# Altium schematic symbol library XSS_IC.SchLib: 440 symbols (part 2 of 4)
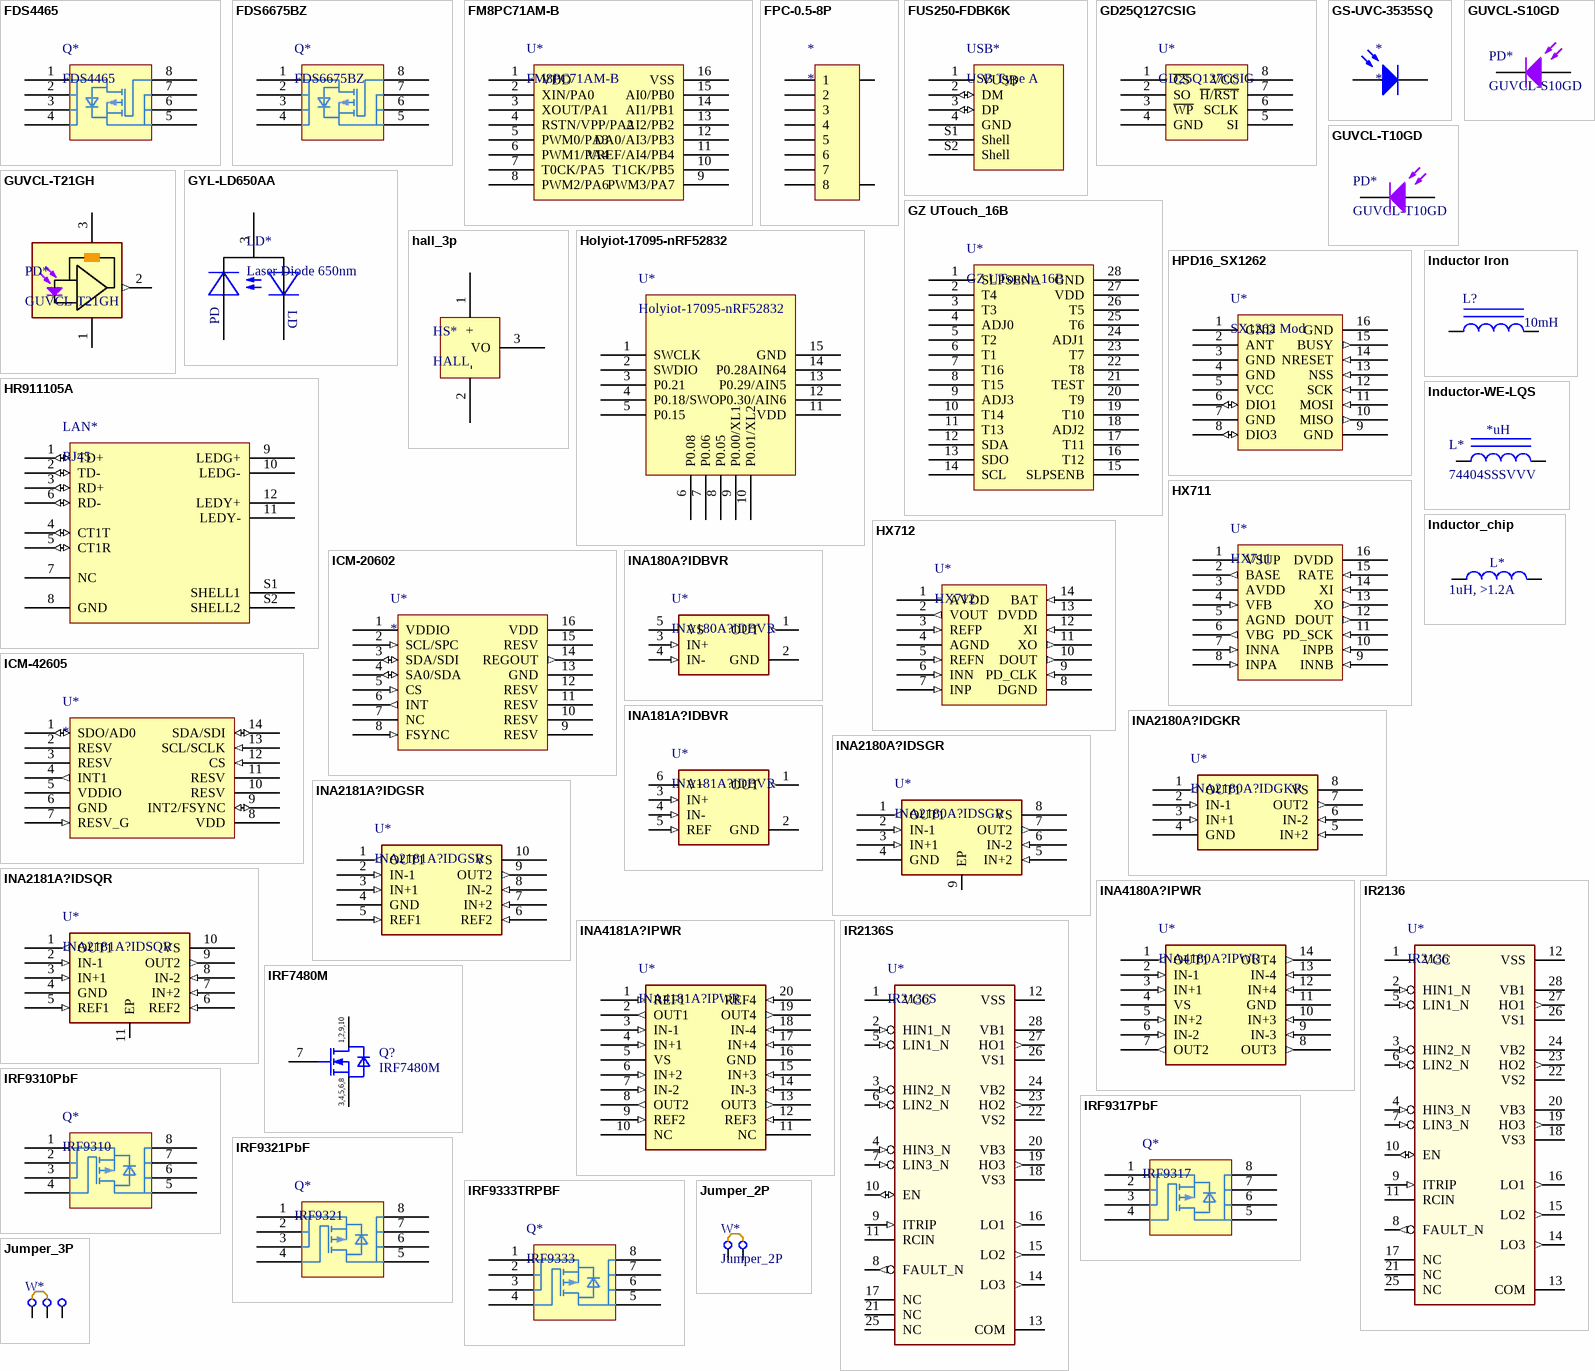
[diagram p14: symbols FDS4465 to Jumper_3P]

## ICM-42605
designator U*
The ICM-42605 is a 6-axis MotionTracking device that combines a 3-axis gyroscope, and a 3-axis accelerometer in a small 2.5x3x0.91 / mm (14-pin LGA) package. It also features a 2K-byte FIFO that can lower the traffic on the serial bus interface, and reduce power / consumption by allowing the system processor to burst read sensor data and then go into a low-power mode.
footprint LGA14-2.5x3x0.91
pins: 1 SDO/AD0 (io), 2 RESV, 3 RESV, 4 INT1 (out), 5 VDDIO (power), 6 GND (power), 7 RESV_G (in), 8 VDD (power), 9 INT2/FSYNC (io), 10 RESV, 11 RESV, 12 CS (in), 13 SCL/SCLK (in), 14 SDA/SDI (io)

## INA180A?IDBVR
designator U*
TI, 26V, 350kHz current sense amplifier, 1 Channel, DBV Package
footprint TI_DBV0005A (TI SOT-23-5,DBV0005A,2.90 mm × 1.60 mm)
pins: 1 OUT (out), 2 GND (power), 3 IN+ (in), 4 IN- (in), 5 VS (power)

## INA181A?IDBVR
designator U*
TI, 26V, bi-directional, 350kHz current sense amplifier, 1 Channel, DBV Package(SOT-23-6)
footprint TI_DBV0006A (TI SOT-23-6,DBV0006A,2.90 mm × 1.60 mm)
pins: 1 OUT (out), 2 GND (power), 3 IN+ (in), 4 IN- (in), 5 REF (in), 6 V+ (power)

## INA2180A?IDGKR
designator U*
TI, 26V, 350kHz current sense amplifier,  2 Channels, DGK Package(VSSOP-8)
footprint TI_DGK0008A (TI, DGK0008A(S-PDSO-G8), VSSOP-8, 3.00 mm × 3.00 mm)
pins: 1 OUT1 (out), 2 IN-1 (in), 3 IN+1 (in), 4 GND (power), 5 IN+2 (in), 6 IN-2 (in), 7 OUT2 (out), 8 VS (power)

## INA2180A?IDSGR
designator U*
TI, 26V, 350kHz current sense amplifier,  2 Channels, DSG Package(WSON-8)
footprint TI_DSG0008A (TI, WSON-8, DSG0008A,2.00 mm × 2.00 mm)
pins: 1 OUT1 (out), 2 IN-1 (in), 3 IN+1 (in), 4 GND (power), 5 IN+2 (in), 6 IN-2 (in), 7 OUT2 (out), 8 VS (power), 9 EP

## INA2181A?IDGSR
designator U*
TI, 26V, bi-directional, 350kHz current sense amplifier, 2 Channel, DGS Package(VSSOP-10)
footprint TI_DGS0010A (TI, VSSOP-10, DGS0010A, 3.00 mm × 3.00 mm)
pins: 1 OUT1 (out), 2 IN-1 (in), 3 IN+1 (in), 4 GND (power), 5 REF1 (in), 6 REF2 (in), 7 IN+2 (in), 8 IN-2 (in), 9 OUT2 (out), 10 VS (power)

## INA2181A?IDSQR
designator U*
TI, 26V, bi-directional, 350kHz current sense amplifier, 2 Channel, DSQ Package(WSON-10)
footprint TI_DSQ0010A (TI, WSON-10, SQ0010A,2.00 mm × 2.00 mm)
pins: 1 OUT1 (out), 2 IN-1 (in), 3 IN+1 (in), 4 GND (power), 5 REF1 (in), 6 REF2 (in), 7 IN+2 (in), 8 IN-2 (in), 9 OUT2 (out), 10 VS (power), 11 EP

## INA4180A?IPWR
designator U*
TI, 26V, 350kHz current sense amplifier,  4 Channels, PW Package(TSSOP-14)
footprint TI_PW0014A (TI, TSSOP-14, PW0014A, 5.00 mm × 4.40 mm)
pins: 1 OUT1 (out), 2 IN-1 (in), 3 IN+1 (in), 4 VS (power), 5 IN+2 (in), 6 IN-2 (in), 7 OUT2 (out), 8 OUT3 (out), 9 IN-3 (in), 10 IN+3 (in), 11 GND (power), 12 IN+4 (in), 13 IN-4 (in), 14 OUT4 (out)

## INA4181A?IPWR
designator U*
TI, 26V, bi-directional, 350kHz current sense amplifier, 4 Channel, PW Package(TSSOP-20)
footprint TI_PW0020A (TI, TSSOP-20, PW0020A, 6.50 mm × 4.40 mm)
pins: 1 REF1 (in), 2 OUT1 (out), 3 IN-1 (in), 4 IN+1 (in), 5 VS (power), 6 IN+2 (in), 7 IN-2 (in), 8 OUT2 (out), 9 REF2 (in), 10 NC, 11 NC, 12 REF3 (in), 13 OUT3 (out), 14 IN-3 (in), 15 IN+3 (in), 16 GND (power), 17 IN+4 (in), 18 IN-4 (in), 19 OUT4 (out), 20 REF4 (in)

## Inductor Iron
designator L?  value 10mH
CDRH Inductor; Published: 24-Mar-1999; LatestRevisionDate: 17-Jul-2002; LatestRevisionNote: Re-released for DXP Platform.; PackageReference: AXIAL-0.9; Publisher: Altium Limited; PackageDescription: Axial Device, Thru-Hole; 2 Leads; 0.9 in Pin Spacing
simulation model INDUCTOR (Inductor)
signal-integrity model Inductor Iron
footprint Inductor-CDRH-73
footprint Inductor-CDRH-105B
footprint Inductor-CDRH-105R
footprint Inductor-CDRH-125
footprint Inductor-CDRH-127
footprint Inductor-CDRH-0420
footprint Inductor-CDRH-1040
footprint Inductor-CDRH-4D28 (4.7x4.7x3.0)
footprint INDUCTOR-SWPA-3010 (sunlord  SWPA series inductor,3.0x3.0x1.0)
footprint INDUCTOR-SWPA-3012 (sunlord  SWPA series inductor,3.0x3.0x1.2)
footprint INDUCTOR-SWPA-252010 (sunlord  SWPA series inductor,2.5x2.0x1.0)
footprint INDUCTOR-SWPA-252012 (sunlord  SWPA series inductor,2.5x2.0x1.2)
footprint INDUCTOR-SWPA-3015 (sunlord  SWPA series inductor,3.0x3.0x1.5)
footprint INDUCTOR-SWPA-4018 (sunlord  SWPA series inductor,4.0x4.0x1.8)
footprint INDUCTOR-SWPA-4012 (sunlord  SWPA series inductor,4.0x4.0x1.2)
footprint INDUCTOR-SWPA-4026 (sunlord  SWPA series inductor,4.0x4.0x2.6)
footprint INDUCTOR-SWPA-5020 (sunlord  SWPA series inductor,5.0x5.0x2.0)
footprint Inductor-Molded-0412 (CDRH Molded: 4.2mm*4.4mm*1.2mm, Sunlord MWSA Size)
footprint Inductor-Molded-0420 (CDRH Molded: 4.2mm*4.4mm*2.0mm, Sunlord MWSA Size)
footprint Inductor-Molded-0518 (CDRH Molded: 5.2mm*5.4mm*1.8mm, Sunlord MWSA Size)
footprint Inductor-Molded-0530 (CDRH Molded: 5.2mm*5.4mm*3.0mm, Sunlord MWSA Size)
footprint Inductor-Molded-0618 (CDRH Molded: 6.6mm*7.0mm*1.8mm, Sunlord MWSA Size)
footprint Inductor-Molded-0630 (CDRH Molded: 6.6mm*7.0mm*3.0mm, Sunlord MWSA Size)
footprint Inductor-Molded-0640 (CDRH Molded: 6.6mm*7.0mm*4.0mm, Sunlord MWSA Size)
footprint Inductor-Molded-0650 (CDRH Molded: 6.6mm*7.0mm*5.0mm, Sunlord MWSA Size)
footprint Inductor-Molded-1040 (CDRH Molded: 10.0mm*11.5mm*4.0mm, Sunlord MWSA Size)
footprint Inductor-Molded-1250 (CDRH Molded: 12.6mm*13.45mm*5.0mm, Sunlord MWSA Size)
footprint Inductor-Molded-0624 (CDRH Molded: 6.6mm*7.0mm*2.4mm, Sunlord MWSA Size)
footprint Inductor-SWPA-6028 (Sunlord SWPA Series,6.0x6.0x2.8)
pins: 1, 2

## Inductor-WE-LQS
designator L*, comment 74404SSSVVV  value *uH
74404(SSS)(VVV):(SSS) is the size number:020/024/031/032/041/042/043/052/054/063/064/084/086, (VVV)is the value of inductor. VVV can be 3/4 numbers; ComponentLink1Description: Website; ComponentLink1URL: https://www.we-online.com/catalog/en/WE-LQS/
footprint INDUCTOR-WE-LQS-2010 (WE LQS series inductor,2.0x1.6x1.0)
footprint INDUCTOR-WE-LQS-2512 (WE LQS series inductor,2.5x2.0x1.2)
footprint INDUCTOR-WE-LQS-3012 (WE LQS series inductor,3.0x3.0x1.2)
footprint INDUCTOR-WE-LQS-3015 (WE LQS series inductor,3.0x3.0x1.5)
footprint INDUCTOR-WE-LQS-4012 (WE LQS series inductor,4.0x3.7x1.2)
footprint INDUCTOR-WE-LQS-4018 (WE LQS series inductor,4.0x3.7x1.8)
footprint INDUCTOR-WE-LQS-4025 (WE LQS series inductor,4.0x4.0x2.5)
footprint INDUCTOR-WE-LQS-5020 (WE LQS series inductor,5.0x4.6x2.0)
footprint INDUCTOR-WE-LQS-5040 (WE LQS series inductor,5.0x5.0x4.0)
footprint INDUCTOR-WE-LQS-6028 (WE LQS series inductor,6.0x6.0x2.8)
footprint INDUCTOR-WE-LQS-6045 (WE LQS series inductor,6.0x6.0x4.5)
footprint INDUCTOR-WE-LQS-8040 (WE LQS series inductor,8.0x8.0x4.2)
footprint INDUCTOR-WE-LQS-8065 (WE LQS series inductor,8.0x8.0x6.5)
pins: 1, 2

## Inductor_chip
designator L*, comment value 1uH, >1.2A  (hidden comment: Inductor)
Chip Inductor
footprint Chip_Inductor_2520
footprint INDC1608N (Chip Inductor, Body 1.6x0.8mm, IPC Medium Density)
footprint INDC1005N (Chip Inductor, Body 1.0x0.5mm, IPC Medium Density)
pins: 1, 2

## IR2136
designator U*
Infineon, IR2136, 600 V three-phase gate driver IC with enable, fault reporting and over current protection. PDIP-28.
footprint INFINEON_PDIP28 (Inifineon PDIP28 package, DIP,15.24mm Lead Space,2.54mm pitch;28 pin,13.525mm W X 37.405mm L X 6.35mm H body)
pins: 1 VCC (power) "Low Side Power Supply", 2 HIN1_N (in) "High Side Negative Logic Input", 3 HIN2_N (in) "High Side Negative Logic Input", 4 HIN3_N (in) "High Side Negative Logic Input", 5 LIN1_N (in) "Low Side Negative Logic Input", 6 LIN2_N (in) "Low Side Negative Logic Input", 7 LIN3_N (in) "Low Side Negative Logic Input", 8 FAULT_N (out) "Indicates Over-Current And Under-Voltage", 9 ITRIP (in) "Analog input for over-current shut down, activates FAULT and RCIN to VSS", 10 EN (io) "Enable I/O Functionality", 11 RCIN "External RC-Network to Define FAULT Clear Delay After FAULT-Signal", 12 VSS (power) "Logic Ground", 13 COM (power) "Low Side Gate Driver Reference", 14 LO3 (out) "Low Side Gate Driver Output", 15 LO2 (out) "Low Side Gate Driver Output", 16 LO1 (out) "Low Side Gate Driver Output", 17 NC "Not Connected", 18 VS3 (power) "High Side Negative Power Supply", 19 HO3 (out) "High Side Gate Driver Output", 20 VB3 (power) "High Side Positive Power Supply", 21 NC "Not Connected", 22 VS2 (power) "High Side Negative Power Supply", 23 HO2 (out) "High Side Gate Driver Output", 24 VB2 (power) "High Side Positive Power Supply", 25 NC "Not Connected", 26 VS1 (power) "High Side Negative Power Supply", 27 HO1 (out) "High Side Gate Driver Output", 28 VB1 (power) "High Side Positive Power Supply"

## IR2136S
designator U*
Infineon, IR2136S, 600 V three-phase gate driver IC with enable, fault reporting and over current protection. SOIC-28W package.
footprint INFINEON_PG-DSO-28 (Infineon SOIC 28W, SOIC,1.27mm pitch;28 pin,7.50mm W X 17.90mm L X 2.65mm H body)
pins: 1 VCC (power) "Low Side Power Supply", 2 HIN1_N (in) "High Side Negative Logic Input", 3 HIN2_N (in) "High Side Negative Logic Input", 4 HIN3_N (in) "High Side Negative Logic Input", 5 LIN1_N (in) "Low Side Negative Logic Input", 6 LIN2_N (in) "Low Side Negative Logic Input", 7 LIN3_N (in) "Low Side Negative Logic Input", 8 FAULT_N (out) "Indicates Over-Current And Under-Voltage", 9 ITRIP (in) "Analog input for over-current shut down, activates FAULT and RCIN to VSS", 10 EN (io) "Enable I/O Functionality", 11 RCIN "External RC-Network to Define FAULT Clear Delay After FAULT-Signal", 12 VSS (power) "Logic Ground", 13 COM (power) "Low Side Gate Driver Reference", 14 LO3 (out) "Low Side Gate Driver Output", 15 LO2 (out) "Low Side Gate Driver Output", 16 LO1 (out) "Low Side Gate Driver Output", 17 NC "Not Connected", 18 VS3 (power) "High Side Negative Power Supply", 19 HO3 (out) "High Side Gate Driver Output", 20 VB3 (power) "High Side Positive Power Supply", 21 NC "Not Connected", 22 VS2 (power) "High Side Negative Power Supply", 23 HO2 (out) "High Side Gate Driver Output", 24 VB2 (power) "High Side Positive Power Supply", 25 NC "Not Connected", 26 VS1 (power) "High Side Negative Power Supply", 27 HO1 (out) "High Side Gate Driver Output", 28 VB1 (power) "High Side Positive Power Supply"

## IRF7480M
designator Q?
Insulated-Gate Field-Effect Transistor (IGFET), N-Channel, Enhancement, Body Diode, Pin 1 Drain, 2 Drain, 3 Source, 4 Source, 5 Source, 6 Source, 7 Gate, 8 Source, 9 Drain, 10 Drain, 10 Pins; Manufacturer: Infineon Technologies; Manufacturer Order Number: IRF7480M; PackageReference: MG-WDSON-8-901
footprint INFINEON_MG-WDSON-8-901 (Infineon, MG-WDSON-8-901, 6.35mm x 5.05mm)
pins: 1 D1 "DRAIN", 2 D2 "DRAIN", 3 S1 "SOURCE", 4 S2 "SOURCE", 5 S3 "SOURCE", 6 S4 "SOURCE", 7 G "GATE", 8 S5 "SOURCE", 9 D3 "DRAIN", 10 D4 "DRAIN"
text: 1,2,9,10; 3,4,5,6,8

## IRF9310PbF
designator Q*, comment IRF9310
IRF9310PbF / infineon / 30V Single P Channel HEXFET Power MOSFET, 20A, SO-8 Package
footprint SO-8_MOS (Infineon PG-DSO-8-902)
pins: 1 S, 2 S, 3 S, 4 G, 5 D, 6 D, 7 D, 8 D

## IRF9317PbF
designator Q*, comment IRF9317
IRF9310PbF / infineon / 30V Single P Channel HEXFET Power MOSFET, 16A, SO-8 Package
footprint SO-8_MOS (Infineon PG-DSO-8-902)
pins: 1 S, 2 S, 3 S, 4 G, 5 D, 6 D, 7 D, 8 D

## IRF9321PbF
designator Q*, comment IRF9321
IRF9321PbF / infineon / 30V Single P Channel HEXFET Power MOSFET, 15A, SO-8 Package
footprint SO-8_MOS (Infineon PG-DSO-8-902)
pins: 1 S, 2 S, 3 S, 4 G, 5 D, 6 D, 7 D, 8 D

## IRF9333TRPBF
designator Q*, comment IRF9333
IRF9333TRPBF / infineon / 30V Single P Channel HEXFET Power MOSFET, 9.2A,SO-8 Package
footprint SO-8_MOS (Infineon PG-DSO-8-902)
pins: 1 S, 2 S, 3 S, 4 G, 5 D, 6 D, 7 D, 8 D

## Jumper_2P
designator W*
A jumper with 2 pins and the Gap is 2.54mm
footprint JUMPER_2P (2.54x3)
pins: 1, 2

## Jumper_3P
designator W*, comment jumper_3P  (value not drawn)
A jumper with 3 pins and the Gap is 2.54mm
footprint Jumper_3P (2.54x3)
pins: 1, 2, 3

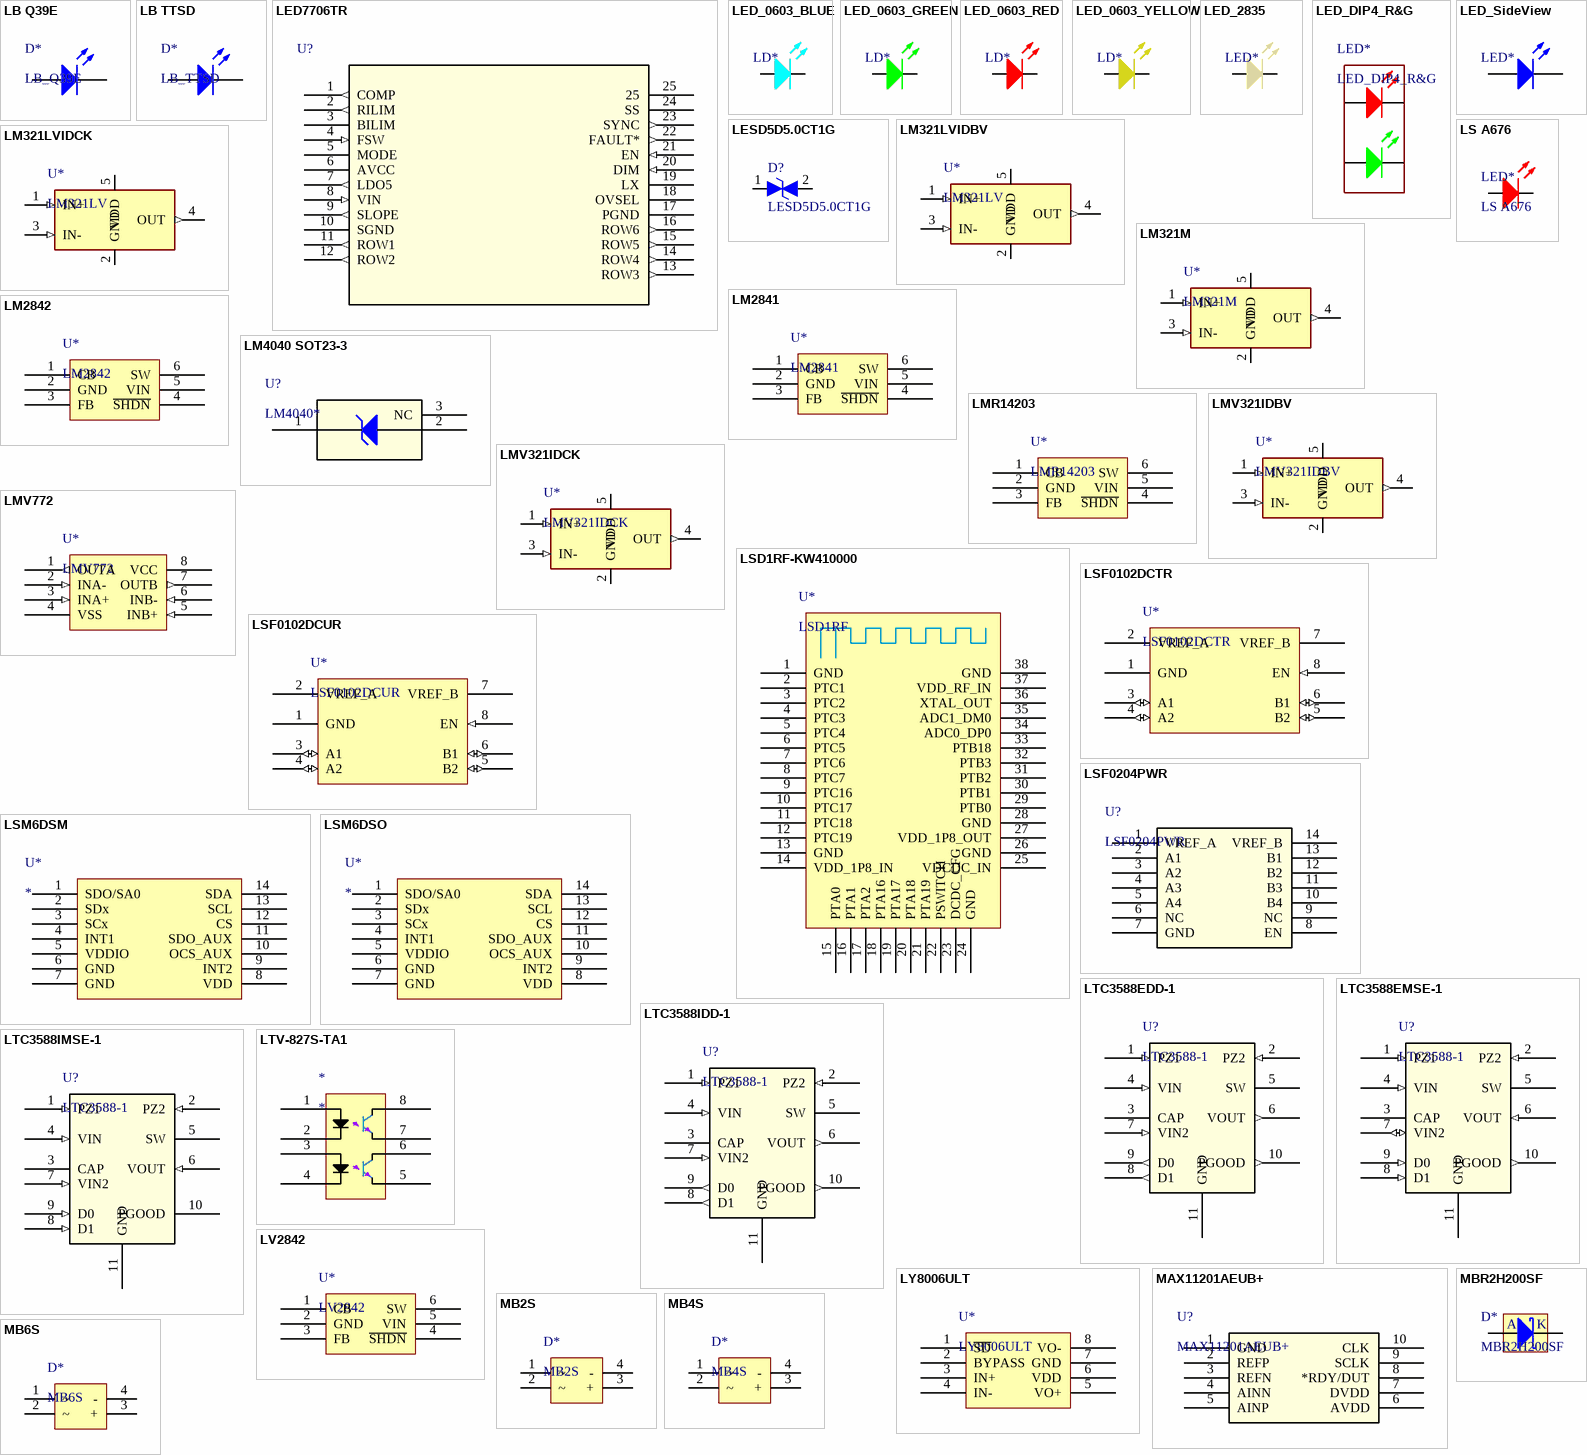
[diagram p4: symbols LB Q39E to MBR2H200SF]

## LB Q39E
designator D*, comment LB_Q39E
OSRAM, LB Q39E, 470nm,0603,I_F=5mA
footprint LED 1608[0603] (LED , Body 1.6x0.8mm)
pins: 1 A, 2 K

## LB TTSD
designator D*, comment LB_TTSD
OSRAM, LB TTSD, λ_peak=464nm,λ_dom=469nm,IF=20mA.PLCC-2
footprint PLCC-2 (LED , Body 1.6x0.8mm)
pins: 1 A, 2 K

## LED7706TR
designator U?  (value not drawn)
ST LED Backlight BOOST Driver. Imported from Ultra Librarian.; Vendor: STMicroelectronics; Built_By: EMA_UL_Team; C: Copyright (C) 2015 Accelerated Designs. All rights reserved; Manufacturer_Part_Number: LED7706; Value: Value; Type: Type; RefDes: RefDes
footprint VFQFPN-24_4x4 (ST VFQFPN-24)
footprint VFQFPN-24_4x4-L (ST VFQFPN-24)
footprint VFQFPN-24_4x4-M (ST VFQFPN-24)
pins: 1 COMP (out), 2 RILIM (out), 3 BILIM, 4 FSW (in), 5 MODE, 6 AVCC, 7 LDO5 (out), 8 VIN (in), 9 SLOPE (out), 10 SGND, 11 ROW1 (out), 12 ROW2 (out), 13 ROW3 (out), 14 ROW4 (out), 15 ROW5 (out), 16 ROW6 (out), 17 PGND, 18 OVSEL, 19 LX, 20 DIM (in), 21 EN (in), 22 FAULT* (out), 23 SYNC (out), 24 SS, 25

## LED_0603_BLUE
designator LD*, comment LED  (value not drawn)
BLUE LED, 0603
footprint LED_0603_AK_Blue (LED , Body 1.6x0.8mm)
pins: A, K

## LED_0603_GREEN
designator LD*, comment LED  (value not drawn)
GREEN LED, 0603
footprint LED_0603_AK_Green (LED , Body 1.6x0.8mm)
pins: A, K

## LED_0603_RED
designator LD*, comment LED  (value not drawn)
RED LED, 0603
footprint LED_0603_AK_Red (LED , Body 1.6x0.8mm)
pins: A, K

## LED_0603_YELLOW
designator LD*, comment LED  (value not drawn)
YELLOW LED, 0603
footprint LED_0603_AK_Yellow (LED , Body 1.6x0.8mm)
pins: A, K

## LED_2835
designator LED*, comment LED 2835  (value not drawn)
LED,2835(2.8mmx3.5mm)
footprint LED_2835 (LED , Body 12.8x3.5mm)
footprint LED_2835_Len10.8 (LED , Body 12.8x3.5mm,with a len(10.8mm))
footprint LED_2835_Len7x6 (LED , Body 12.8x3.5mm,with a len(diameter:6mm,base:7mmx6mm))
pins: 1 K, 2 A

## LED_DIP4_R&G
designator LED*
GREEN LED, DIP4
footprint LED-DP4
pins: 1 K_GREEN, 2 A_GREEN, 3 K_RED, 4 A_RED

## LED_SideView
designator LED*, comment LED  (value not drawn)
LED 0603(0602 SideView)
footprint LED_Side_0603
pins: A, K

## LESD5D5.0CT1G
designator D?
The LESD5D5.0CT1G is designed to protect voltage  sensitive components from ESD and transient voltage / events. Excellent clamping capability, low leakage, and / fast response time, make these parts ideal for ESD / protection on designs where board space is at a / premium. SOD-523; JLC_ID1: C5199850; JLC_ID2: C383211
footprint SOD-523 (TVS diode package)
pins: 1, 2

## LM321LVIDBV
designator U*, comment LM321LV
LMV321LV, Single, 5.5-V, 1-MHz, 3-mV offset voltage operational amplifier, SOT-23-5(DBV) package
footprint TI_DBV0005A (TI SOT-23-5,DBV0005A,2.90 mm × 1.60 mm)
pins: 1 IN+ (in) "Noninverting input", 2 GND (power) "Ground", 3 IN- (in) "Inverting input", 4 OUT (out), 5 VDD (power)

## LM321LVIDCK
designator U*, comment LM321LV
LMV321LV, Single, 5.5-V, 1-MHz, 3-mV offset voltage operational amplifier, SC70-5(DCK) package
footprint TI_DCK5 (TI, SC70-5, 2.00 mm × 1.25 mm)
pins: 1 IN+ (in) "Noninverting input", 2 GND (power) "Ground", 3 IN- (in) "Inverting input", 4 OUT (out), 5 VDD (power)

## LM321M
designator U*
LM321, Single, 30-V, 1-MHz operational amplifier, SOT-23-5(DBV) package
footprint TI_DBV0005A (TI SOT-23-5,DBV0005A,2.90 mm × 1.60 mm)
pins: 1 IN+ (in) "Noninverting input", 2 GND (power) "Ground", 3 IN- (in) "Inverting input", 4 OUT (out), 5 VDD (power)

## LM2841
designator U*
LM284x SIMPLE SWITCHER® 4.5-V to 42-V Input, 0.3-A Output Step-Down DC/DC Regulator in Thin SOT
footprint DDC0006A (TI, SOT-23-6 thin)
pins: 1 CB (power), 2 GND (power), 3 FB (power), 4 ~{SHDN} (power), 5 VIN (power), 6 SW (power)

## LM2842
designator U*
LM284x SIMPLE SWITCHER® 4.5-V to 42-V Input, 0.6-A Output Step-Down DC/DC Regulator in Thin SOT
footprint DDC0006A (TI, SOT-23-6 thin)
pins: 1 CB (power), 2 GND (power), 3 FB (power), 4 ~{SHDN} (power), 5 VIN (power), 6 SW (power)

## LM4040 SOT23-3
designator U?, comment LM4040*
LM4040-N/-Q1 Precision Micropower Shunt Voltage Reference, SOT-23; Manufacturer: Texas Instruments; Manufacturer_Part_Number: lm4040d30_dbz_3; Built_By: EMA_UL_Team; C: Copyright (C) 2015 Accelerated Designs. All rights reserved; Vendor: Texas Instruments; Value: Value; Type: Type; RefDes: RefDes
footprint DBZ3
footprint DBZ3-L
footprint DBZ3-M
footprint SC70-3
footprint SC70-3-L (SC70-3)
footprint SC70-3-M (SC7-30)
pins: 1 CATHODE, 2 ANODE, 3 NC

## LMR14203
designator U*
LMR14203 SIMPLE SWITCHER® 42Vin, 0.3A Step-Down Voltage Regulator in SOT-23
footprint MK06A
pins: 1 CB (power), 2 GND (power), 3 FB (power), 4 ~{SHDN} (power), 5 VIN (power), 6 SW (power)

## LMV321IDBV
designator U*
LMV321, Single, 5.5-V, 1-MHz, RRO operational amplifier, SOT-23-5(DBV) package
footprint TI_DBV0005A (TI SOT-23-5,DBV0005A,2.90 mm × 1.60 mm)
pins: 1 IN+ (in) "Noninverting input", 2 GND (power) "Ground", 3 IN- (in) "Inverting input", 4 OUT (out), 5 VDD (power)

## LMV321IDCK
designator U*
LMV321, Single, 5.5-V, 1-MHz, RRO operational amplifier, SC70-5(DCK) package
footprint TI_DCK5 (TI, SC70-5, 2.00 mm × 1.25 mm)
pins: 1 IN+ (in) "Noninverting input", 2 GND (power) "Ground", 3 IN- (in) "Inverting input", 4 OUT (out), 5 VDD (power)

## LMV772
designator U*
Dual Low Offset, Low Noise, RRO Operational Amplifiers from TI. With soic-8 and vssop-8 package
footprint DGK0008A (TI DGK(S-PDSO-G8) package with 5mmx3mm size. Known as VSSOP-8)
footprint D0008A (TI D0008A(R-PDSO-G8) package with 6mmx3.85mm size, known as soic-8)
pins: 1 OUTA (out), 2 INA- (in), 3 INA+ (in), 4 VSS (power), 5 INB+ (in), 6 INB- (in), 7 OUTB (out), 8 VCC (power)

## LS A676
designator LED*
osram sideled series, super red,; ComponentLink1Description: LS A676 link; ComponentLink1URL: https://www.osram.com/ecat/SIDELED%C2%AE%20LS%20A676/com/en/class_pim_web_catalog_103489/prd_pim_device_2190951/
footprint OSRAM_SIDELED_SMT (this package is for osram sideled series.3.8x3.8x3.8)
pins: A, K

## LSD1RF-KW410000
designator U*, comment LSD1RF
Freescale KW41Z MCU is its core chip
footprint LSD1RF-P38
pins: 1 GND, 2 PTC1, 3 PTC2, 4 PTC3, 5 PTC4, 6 PTC5, 7 PTC6, 8 PTC7, 9 PTC16, 10 PTC17, 11 PTC18, 12 PTC19, 13 GND, 14 VDD_1P8_IN, 15 PTA0, 16 PTA1, 17 PTA2, 18 PTA16, 19 PTA17, 20 PTA18, 21 PTA19, 22 PSWITCH, 23 DCDC_CFG, 24 GND, 25 VDCDC_IN, 26 GND, 27 VDD_1P8_OUT, 28 GND, 29 PTB0, 30 PTB1, 31 PTB2, 32 PTB3, 33 PTB18, 34 ADC0_DP0, 35 ADC1_DM0, 36 XTAL_OUT, 37 VDD_RF_IN, 38 GND

## LSF0102DCTR
designator U*
TI, LSF0102DCTR, Dual Bidirectional Multi-Voltage Level Translator, SSOP-8, 2.95mm x 2.80mm
footprint DCT0008A (TI DCT0008A(SSOP-8))
pins: 1 GND (power), 2 VREF_A (power), 3 A1 (io), 4 A2 (io), 5 B2 (io), 6 B1 (io), 7 VREF_B (power), 8 EN (in)

## LSF0102DCUR
designator U*
TI, LSF0102DCUR, Dual Bidirectional Multi-Voltage Level Translator, VSSOP-8, 2.30mm x 2.00mm
footprint DCU0008A (TI DCU0008A(VSSOP-8) package)
pins: 1 GND (power), 2 VREF_A (power), 3 A1 (io), 4 A2 (io), 5 B2 (io), 6 B1 (io), 7 VREF_B (power), 8 EN (in)

## LSF0204PWR
designator U?
LSF0204PWR, TI ,Auto bidirectional voltage translation. TSSOP.; Vendor: Texas Instruments; Built_By: EMA_UL_Team; C: Copyright (C) 2016 Accelerated Designs. All rights reserved; Manufacturer_Part_Number: lsf0204pwr; Value: Value; Type: Type; RefDes: RefDes
footprint PW14
footprint PW14-L
footprint PW14-M
pins: 1 VREF_A, 2 A1, 3 A2, 4 A3, 5 A4, 6 NC, 7 GND (power), 8 EN, 9 NC, 10 B4, 11 B3, 12 B2, 13 B1, 14 VREF_B

## LSM6DSM
designator U*
ST iNEMO inertial module: always-on 3D accelerometer and 3D gyroscope
footprint LGA14L-2.5x3x0.86
pins: 1 SDO/SA0, 2 SDx, 3 SCx, 4 INT1, 5 VDDIO, 6 GND, 7 GND, 8 VDD, 9 INT2, 10 OCS_AUX, 11 SDO_AUX, 12 CS, 13 SCL, 14 SDA

## LSM6DSO
designator U*
ST iNEMO inertial module: always-on 3D accelerometer and 3D gyroscope
footprint LGA14L-2.5x3x0.86
pins: 1 SDO/SA0, 2 SDx, 3 SCx, 4 INT1, 5 VDDIO, 6 GND, 7 GND, 8 VDD, 9 INT2, 10 OCS_AUX, 11 SDO_AUX, 12 CS, 13 SCL, 14 SDA

## LTC3588EDD-1
designator U?, comment LTC3588-1
Linear (ADI) uW Energy Harvesting IC; Manufacturer_Part_Number: ltc3588edd-1#pbf; Vendor: Linear Technology; Copyright: Copyright (C) 2018 Accelerated Designs. All rights reserved; RefDes: RefDes; Type: DEV; Value: Value
footprint DFN-10_DD
footprint DFN-10_DD-L
footprint DFN-10_DD-M
pins: 1 PZ1 (in), 2 PZ2 (in), 3 CAP, 4 VIN (in), 5 SW, 6 VOUT (out), 7 VIN2 (in), 8 D1 (out), 9 D0 (out), 10 PGOOD (out), 11 GND

## LTC3588EMSE-1
designator U?, comment LTC3588-1
Linear (ADI) uW Energy Harvesting IC; Manufacturer_Part_Number: ltc3588edd-1#pbf; Vendor: Linear Technology; Copyright: Copyright (C) 2018 Accelerated Designs. All rights reserved; RefDes: RefDes; Type: DEV; Value: Value
footprint MSOP-10_MSE
footprint MSOP-10_MSE-L
footprint MSOP-10_MSE-M
pins: 1 PZ1 (in), 2 PZ2 (in), 3 CAP, 4 VIN (in), 5 SW, 6 VOUT (in), 7 VIN2 (io), 8 D1 (in), 9 D0 (in), 10 PGOOD (out), 11 GND

## LTC3588IDD-1
designator U?, comment LTC3588-1
Linear (ADI) uW Energy Harvesting IC; Manufacturer_Part_Number: ltc3588edd-1#pbf; Vendor: Linear Technology; Copyright: Copyright (C) 2018 Accelerated Designs. All rights reserved; RefDes: RefDes; Type: DEV; Value: Value
footprint DFN-10_DD
footprint DFN-10_DD-L
footprint DFN-10_DD-M
pins: 1 PZ1 (in), 2 PZ2 (in), 3 CAP, 4 VIN (in), 5 SW, 6 VOUT (out), 7 VIN2 (in), 8 D1 (out), 9 D0 (out), 10 PGOOD (out), 11 GND

## LTC3588IMSE-1
designator U?, comment LTC3588-1
Linear (ADI) uW Energy Harvesting IC; Manufacturer_Part_Number: ltc3588edd-1#pbf; Vendor: Linear Technology; Copyright: Copyright (C) 2018 Accelerated Designs. All rights reserved; RefDes: RefDes; Type: DEV; Value: Value
footprint MSOP-10_MSE
footprint MSOP-10_MSE-L
footprint MSOP-10_MSE-M
pins: 1 PZ1 (in), 2 PZ2 (in), 3 CAP, 4 VIN (in), 5 SW, 6 VOUT (in), 7 VIN2 (in), 8 D1 (in), 9 D0 (in), 10 PGOOD, 11 GND

## LTV-827S-TA1
designator *
footprint SMD-8_6.3mm (Liteon LTV-827S-TA1 package)
pins: 1 1A, 2 1K, 3 2A, 4 2K, 5 2E, 6 2C, 7 1E, 8 1C

## LV2842
designator U*
High Efficiency Wide Input Voltage Range Buck Regulator
footprint DDC0006A (TI, SOT-23-6 thin)
pins: 1 CB (power), 2 GND (power), 3 FB (power), 4 ~{SHDN} (power), 5 VIN (power), 6 SW (power)

## LY8006ULT
designator U*
LY8006ULT,MSOP-8,3.3 W Mono Filterless Class D Audio power Amplifier
footprint msop-8 (MSOP-8, 5.1mmx3.1mmx1.1mm)
pins: 1 ~{SD}, 2 BYPASS, 3 IN+, 4 IN-, 5 VO+, 6 VDD, 7 GND, 8 VO-

## MAX11201AEUB+
designator U?
MAX11201AEUB+,INL: 3ppm (typ), 10ppm (max); Vendor: Maxim Integrated Products; Built_By: EMA_UL_Team; C: Copyright (C) 2015 Accelerated Designs. All rights reserved; Value: Value; Type: Type; RefDes: RefDes
footprint 21-0061L
pins: 1 GND (power), 2 REFP, 3 REFN, 4 AINN, 5 AINP, 6 AVDD (power), 7 DVDD (power), 8 *RDY/DUT, 9 SCLK, 10 CLK

## MB2S
designator D*
Miniature Glass Passivated Fast Recovery Surface Mount Bridge Rectifier. 0.5A, 200v, Vf is 1.0v at If  equels with 0.4A
footprint TO-269AA (equels with SOIC-4)
pins: 1 ~, 2 ~, 3 +, 4 -

## MB4S
designator D*
Miniature Glass Passivated Fast Recovery Surface Mount Bridge Rectifier. 0.5A, 400v, Vf is 1.0v at If  equels with 0.4A
footprint TO-269AA (equels with SOIC-4)
pins: 1 ~, 2 ~, 3 +, 4 -

## MB6S
designator D*
Miniature Glass Passivated Fast Recovery Surface Mount Bridge Rectifier. 0.5A, 600v, Vf is 1.0v at If  equels with 0.4A, IR= 5uA
footprint TO-269AA (equels with SOIC-4)
pins: 1 ~, 2 ~, 3 +, 4 -

## MBR2H200SF
designator D*
ONSEMI,MBR2H200SFT1G or MBR2H200SFT3G, 2A, 200V,Plastic SOD−123FL Package
footprint SOD-123FL (ONSEMI diode)
pins: A, K

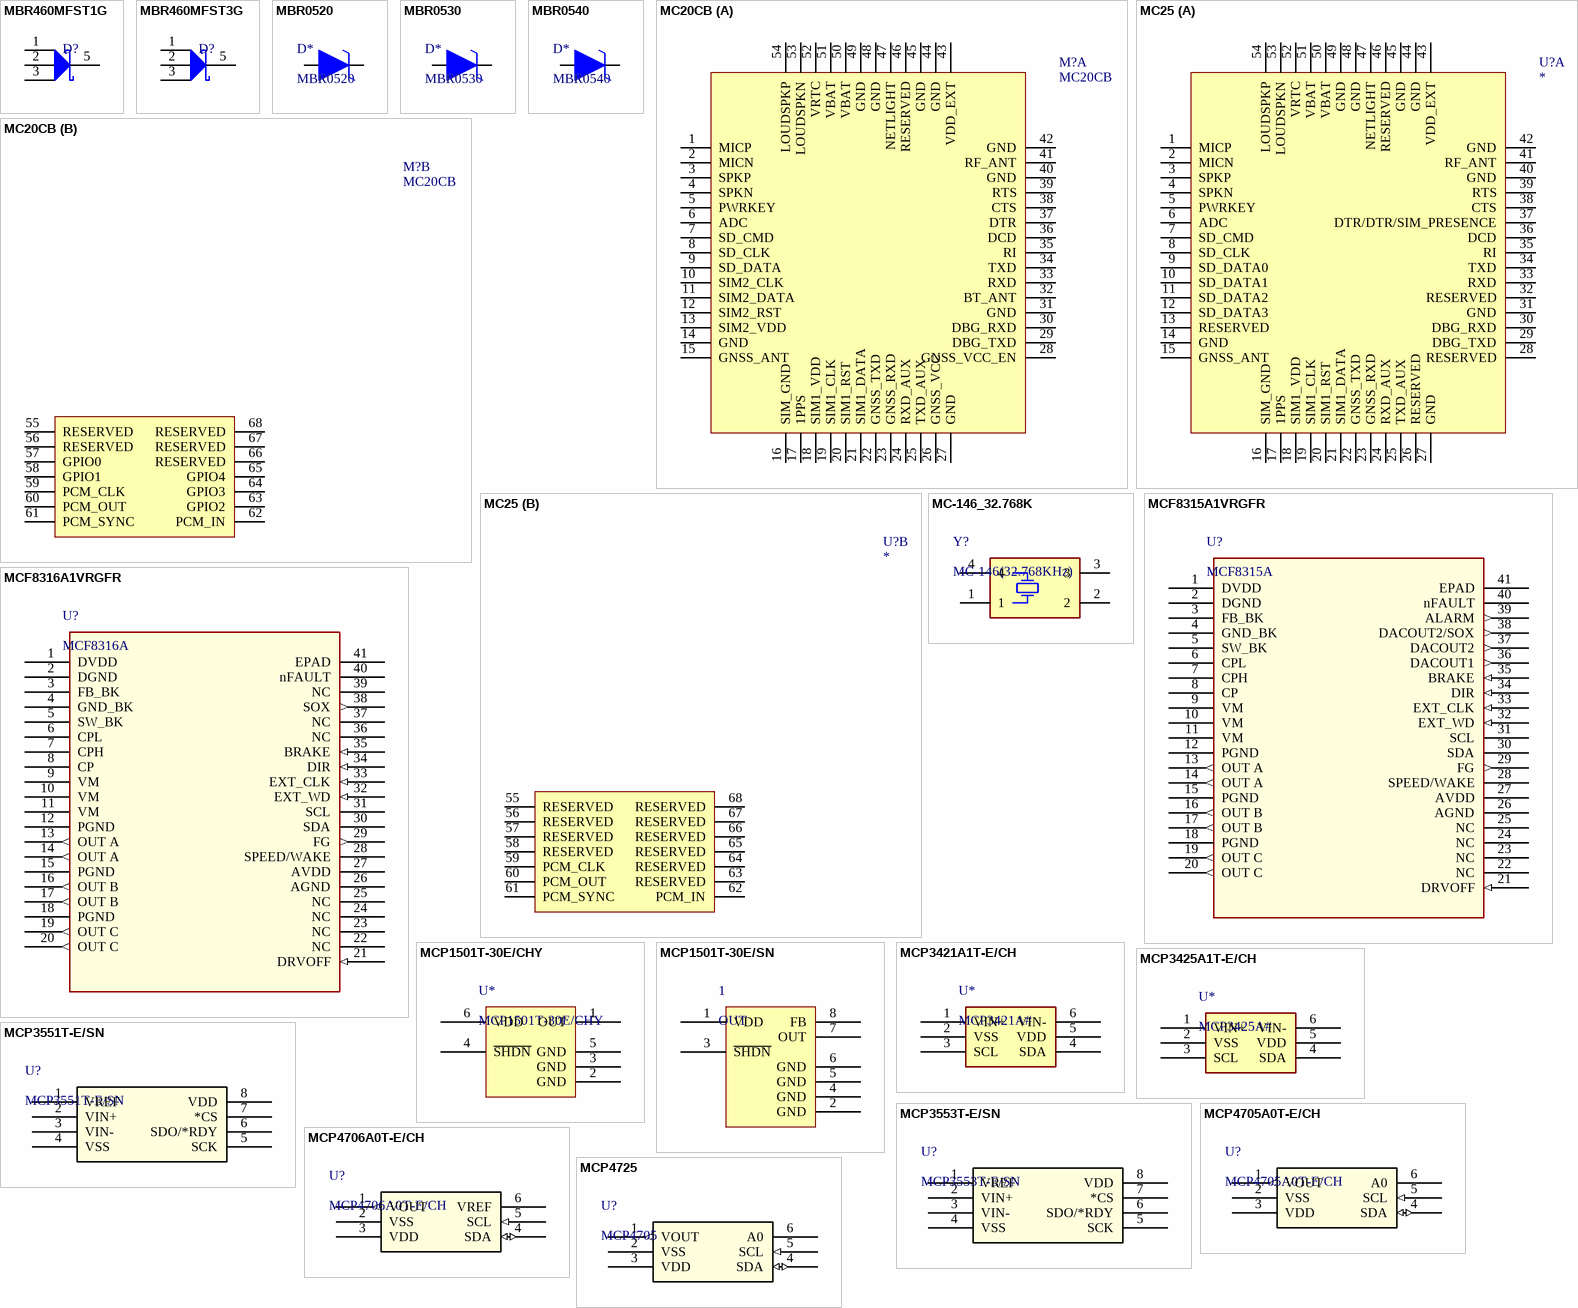
[diagram p5: symbols MBR460MFST1G to MCP4725]

## MBR460MFST1G
designator D?
SWITCHMODE(TM) Power Rectifier, 5-Pin DFN, Pb-Free, Tape and Reel; Manufacturer: On Semiconductor; PartNumber: MBR460MFST1G; Configuration: Single; IFSM Max (A): 40; DatasheetVersion: Rev. 0; PackageVersion: Rev. G, 04/2012; PackageReference: DFN-5-488AA_G; PackageDescription: 5-Pin Small Outline No-Lead, Body 4.9 x 5.8 mm, Pitch 1.27 mm; Supplier 1: Newark; Supplier Part Number 1: 97W6135; Supplier 2: Mouser; Supplier Part Number 2: 863-MBR460MFST1G; Packing: Tape and Reel; RoHS: TRUE; Mounting Technology: Surface Mount; ComponentLink1Description: Manufacturer URL; ComponentLink1URL: http://www.onsemi.com/; ComponentLink2Description: Datasheet; ComponentLink2URL: http://www.onsemi.cn/pub_link/Collateral/MBR460MFS-D.PDF; ComponentLink3Description: Package Specification; ComponentLink3URL: http://www.onsemi.com/pub_link/Collateral/MBR5H100MFS-D.PDF
footprint ONSC-DFN-5-488AA_G_V (DFN, 5-Leads, Body 4.9x5.8mm)
pins: 1 A, 2 A, 3 A, 4 NC, 5 K

## MBR460MFST3G
designator D?
SWITCHMODE(TM) Power Rectifier, 5-Pin DFN, Pb-Free, Tape and Reel; Manufacturer: On Semiconductor; PartNumber: MBR460MFST3G; Configuration: Single; IFSM Max (A): 40; DatasheetVersion: Rev. 0; PackageVersion: Rev. G, 04/2012; PackageReference: DFN-5-488AA_G; PackageDescription: 5-Pin Small Outline No-Lead, Body 4.9 x 5.8 mm, Pitch 1.27 mm; Supplier 1: Newark; Supplier Part Number 1: 97W6136; Supplier 2: Mouser; Supplier Part Number 2: 863-MBR460MFST3G; Packing: Tape and Reel; RoHS: TRUE; Mounting Technology: Surface Mount; ComponentLink1Description: Manufacturer URL; ComponentLink1URL: http://www.onsemi.com/; ComponentLink2Description: Datasheet; ComponentLink2URL: http://www.onsemi.cn/pub_link/Collateral/MBR460MFS-D.PDF; ComponentLink3Description: Package Specification; ComponentLink3URL: http://www.onsemi.com/pub_link/Collateral/MBR5H100MFS-D.PDF
footprint ONSC-DFN-5-488AA_G_V (DFN, 5-Leads, Body 4.9x5.8mm)
pins: 1 A, 2 A, 3 A, 4 NC, 5 K

## MBR0520
designator D*
VRRM:20V,  VRMS:14V, VF: 450mV, IO:500mA, footprint: SOD-123
footprint SOD-123 (vishay diode)
pins: A, K

## MBR0530
designator D*
VRRM:30V,  VRMS:21V, VF: 550mV, IO:500mA, footprint: SOD-123
footprint SOD-123 (vishay diode)
pins: A, K

## MBR0540
designator D*
VRRM:40V, VRMS:28V, VF: 550mV, IO:500mA, footprint: SOD-123
footprint SOD-123 (vishay diode)
pins: A, K

## MC20CB
designator M?
Quectel GSM/GPRS/GNSS model MC20CB with MQTT inside; PCB DECAL: *; BOMRemark: *; Geometry.Height: *; Manufacturer: *; Part Description: *; Part Number: *; Value: *
footprint Quectel_MC25 (the package of MC25 from Quectel with 54LCC+14LGA)
part A pins: 1 MICP, 2 MICN, 3 SPKP, 4 SPKN, 5 PWRKEY, 6 ADC, 7 SD_CMD, 8 SD_CLK, 9 SD_DATA, 10 SIM2_CLK, 11 SIM2_DATA, 12 SIM2_RST, 13 SIM2_VDD, 14 GND, 15 GNSS_ANT, 16 SIM_GND, 17 1PPS, 18 SIM1_VDD, 19 SIM1_CLK, 20 SIM1_RST, 21 SIM1_DATA, 22 GNSS_TXD, 23 GNSS_RXD, 24 RXD_AUX, 25 TXD_AUX, 26 GNSS_VCC, 27 GND, 28 GNSS_VCC_EN, 29 DBG_TXD, 30 DBG_RXD, 31 GND, 32 BT_ANT, 33 RXD, 34 TXD, 35 RI, 36 DCD, 37 DTR, 38 CTS, 39 RTS, 40 GND, 41 RF_ANT, 42 GND, 43 VDD_EXT, 44 GND, 45 GND, 46 RESERVED, 47 NETLIGHT, 48 GND, 49 GND, 50 VBAT, 51 VBAT, 52 VRTC, 53 LOUDSPKN, 54 LOUDSPKP
part B pins: 55 RESERVED, 56 RESERVED, 57 GPIO0, 58 GPIO1, 59 PCM_CLK, 60 PCM_OUT, 61 PCM_SYNC, 62 PCM_IN, 63 GPIO2, 64 GPIO3, 65 GPIO4, 66 RESERVED, 67 RESERVED, 68 RESERVED
2 alternate drawings of the same symbol

## MC25
designator U?
Quectel GSM/GPRS/GNSS model; PCB DECAL: *; BOMRemark: *; Geometry.Height: *; Manufacturer: *; Part Description: *; Part Number: *; Value: *
footprint Quectel_MC25 (the package of MC25 from Quectel with 54LCC+14LGA)
part A pins: 1 MICP, 2 MICN, 3 SPKP, 4 SPKN, 5 PWRKEY, 6 ADC, 7 SD_CMD, 8 SD_CLK, 9 SD_DATA0, 10 SD_DATA1, 11 SD_DATA2, 12 SD_DATA3, 13 RESERVED, 14 GND, 15 GNSS_ANT, 16 SIM_GND, 17 1PPS, 18 SIM1_VDD, 19 SIM1_CLK, 20 SIM1_RST, 21 SIM1_DATA, 22 GNSS_TXD, 23 GNSS_RXD, 24 RXD_AUX, 25 TXD_AUX, 26 RESERVED, 27 GND, 28 RESERVED, 29 DBG_TXD, 30 DBG_RXD, 31 GND, 32 RESERVED, 33 RXD, 34 TXD, 35 RI, 36 DCD, 37 DTR/DTR/SIM_PRESENCE, 38 CTS, 39 RTS, 40 GND, 41 RF_ANT, 42 GND, 43 VDD_EXT, 44 GND, 45 GND, 46 RESERVED, 47 NETLIGHT, 48 GND, 49 GND, 50 VBAT, 51 VBAT, 52 VRTC, 53 LOUDSPKN, 54 LOUDSPKP
part B pins: 55 RESERVED, 56 RESERVED, 57 RESERVED, 58 RESERVED, 59 PCM_CLK, 60 PCM_OUT, 61 PCM_SYNC, 62 PCM_IN, 63 RESERVED, 64 RESERVED, 65 RESERVED, 66 RESERVED, 67 RESERVED, 68 RESERVED
2 alternate drawings of the same symbol

## MC-146_32.768K
designator Y?, comment MC-146(32.768KHz)
Epson, MC-146, 32.768K; Manufacturer_Name: Epson Timing; Manufacturer_Part_Number: FC-135 32.7680KA-A3; Datasheet Link: https://componentsearchengine.com/Datasheets/1/FC-135 32.7680KA-A3.pdf; Height: 0mm; Mouser Part Number: 732-FC135-32.76KAA3; Mouser Price/Stock: https://www.mouser.com/Search/Refine.aspx?Keyword=732-FC135-32.76KAA3
footprint MC-146 (epson device, 32.768kHz, mc-146 type)
pins: 1, 2, 3, 4

## MCF8315A1VRGFR
designator U?, comment MCF8315A
The MCF8315A provides a single-chip, code-free sensorless FOC solution for customers driving speed-controlled 12- to 24-V brushless-DC motors (BLDC) or Permanent Magnet Synchronous motor (PMSM) up to 4-A peak current. The MCF8315A integrates three ½-bridges with 40-V absolute maximum capability and a low RDS(ON) of 240 mΩ (high-side + low-side FETs). MCF8315A integrates power management circuits including an voltage-adjustable buck regulator (3.3 V / 5 V, 170-mA) and LDO (3.3 V / 20 mA) that can be used to power external circuits.; Mfr_Name: Texas Instruments; RefDes: RefDes; Type: Type
footprint QFN_A1VRGFR_TEX
pins: 1 DVDD (power), 2 DGND (power), 3 FB_BK (power), 4 GND_BK (power), 5 SW_BK (power), 6 CPL (power), 7 CPH (power), 8 CP (power), 9 VM (power), 10 VM (power), 11 VM (power), 12 PGND (power), 13 OUT A (out), 14 OUT A (out), 15 PGND (power), 16 OUT B (out), 17 OUT B (out), 18 PGND (power), 19 OUT C (out), 20 OUT C (out), 21 DRVOFF (in), 22 NC, 23 NC, 24 NC, 25 NC, 26 AGND (power), 27 AVDD (power), 28 SPEED/WAKE, 29 FG (out), 30 SDA, 31 SCL, 32 EXT_WD (in), 33 EXT_CLK (in), 34 DIR (in), 35 BRAKE (in), 36 DACOUT1 (out), 37 DACOUT2 (out), 38 DACOUT2/SOX (out), 39 ALARM (out), 40 nFAULT, 41 EPAD (power)

## MCF8316A1VRGFR
designator U?, comment MCF8316A
The MCF8316A provides a single-chip, code-free / sensorless FOC solution for customers driving speedcontrolled 12- to 24-V brushless-DC motors (BLDC) / or Permanent Magnet Synchronous motor (PMSM) up / to 8-A peak current. The MCF8316A integrates three / 1/2-H bridges with 40-V absolute maximum capability and a very low RDS(ON) of 95 mΩ(high-side + lowside). Power management features of an adjustable / buck regulator and LDO generate the 3.3-V or 5.0-V / voltage rails for the device and can be used to power / external circuits.; Mfr_Name: Texas Instruments; RefDes: RefDes; Type: Type
footprint QFN_A1VRGFR_TEX
pins: 1 DVDD (power), 2 DGND (power), 3 FB_BK (power), 4 GND_BK (power), 5 SW_BK (power), 6 CPL (power), 7 CPH (power), 8 CP (power), 9 VM (power), 10 VM (power), 11 VM (power), 12 PGND (power), 13 OUT A (out), 14 OUT A (out), 15 PGND (power), 16 OUT B (out), 17 OUT B (out), 18 PGND (power), 19 OUT C (out), 20 OUT C (out), 21 DRVOFF (in), 22 NC, 23 NC, 24 NC, 25 NC, 26 AGND (power), 27 AVDD (power), 28 SPEED/WAKE, 29 FG (out), 30 SDA, 31 SCL, 32 EXT_WD (in), 33 EXT_CLK (in), 34 DIR (in), 35 BRAKE (in), 36 NC, 37 NC, 38 SOX (out), 39 NC, 40 nFAULT, 41 EPAD (power)

## MCP1501T-30E/CHY
designator U*
MCP1501T-30E is a high-precision buffered voltage reference. Output voltage is 3.0V. Package:SOT-23 6 Pins.
footprint SOT23-DBV6 (TI SOT-23-6,DBV6)
footprint SOT23-DBV6-L (TI SOT-23-6,DBV6,L)
footprint SOT23-DBV6-M (TI SOT-23-6,DBV6,M)
pins: 1 OUT (power), 2 GND (power), 3 GND (power), 4 ~{SHDN} (power), 5 GND (power), 6 VDD (power)

## MCP1501T-30E/SN
designator 1, comment OUT
MCP1501T-30E is a high-precision buffered voltage reference. Output voltage is 3.0V. The package of MCP1501T-30E/SN is SOIC-8.
footprint SOIC_D8 (TI SOIC-D8)
footprint SOIC_D8-L (TI TI SOIC_D8 L)
footprint SOIC_D8-M (TI SOIC_D8 M)
pins: 1 VDD (power), 2 GND (power), 3 ~{SHDN} (power), 4 GND (power), 5 GND (power), 6 GND (power), 7 OUT (power), 8 FB (power)

## MCP3421A1T-E/CH
designator U*, comment MCP3421A#
Microchip, MCP3421. 18-Bit Analog-to-Digital Converter / with I2C Interface and On-Board Reference. SOT-23-6 package. With On-Board Voltage Reference: Accuracy: 2.048V ± 0.05%, Drift: 15 ppm/°C. Programmable Data Rate Options: 3.75 SPS (18 bits) and 15 SPS (16 bits) ...
footprint SOT-23-6_MC_MCH
pins: 1 VIN+, 2 VSS, 3 SCL, 4 SDA, 5 VDD, 6 VIN-

## MCP3425A1T-E/CH
designator U*, comment MCP3425A#
Microchip, MCP3425. 16-Bit Analog-to-Digital Converter / with I2C Interface and On-Board Reference. SOT-23-6 package. With On-Board Voltage Reference: Accuracy: 2.048V ± 0.05%. Data Rate: 15SPS@16bits
footprint SOT-23-6_MC_MCH
pins: 1 VIN+, 2 VSS, 3 SCL, 4 SDA, 5 VDD, 6 VIN-

## MCP3551T-E/SN
designator U?
MCP3551T-E/SN,22-bit ADC,3 µV offset error,2 ppm typical full-scale error,6 ppm maximum INL error; Vendor: Microchip; Built_By: EMA_UL_Team; C: Copyright (C) 2015 Accelerated Designs. All rights reserved; Manufacturer_Part_Number: MCP3551T-E/SN; Value: Value; Type: Type; RefDes: RefDes
footprint SOIC8-N_MC
pins: 1 VREF, 2 VIN+, 3 VIN-, 4 VSS, 5 SCK, 6 SDO/*RDY, 7 *CS, 8 VDD

## MCP3553T-E/SN
designator U?
MCP3553T-E/SN, Microchip, 22bits ADC; Built_By: EMA_UL_Team; C: Copyright (C) 2015 Accelerated Designs. All rights reserved; Vendor: Microchip; Manufacturer_Part_Number: MCP3553T-E/SN; Value: Value; Type: Type; RefDes: RefDes
footprint SOIC8-N_MC
footprint SOIC8-N_MC-L
footprint SOIC8-N_MC-M
pins: 1 VREF, 2 VIN+, 3 VIN-, 4 VSS, 5 SCK, 6 SDO/*RDY, 7 *CS, 8 VDD

## MCP4705A0T-E/CH
designator U?
MCP4705, Microchip,12bits I2C single-channel DAC, MCP4725A#T-E/CH(# means0~3) .without Vref; Manufacturer_Part_Number: mcp4706a0t-e/ch; Built_By: EMA_UL_Team; C: Copyright (C) 2015 Accelerated Designs. All rights reserved; Vendor: Microchip; Value: Value; Type: Type; RefDes: RefDes; ComponentLink1Description: Product Link; ComponentLink1URL: https://www.microchip.com/wwwproducts/en/MCP4726
footprint SOT23-DBV6
footprint SOT23-DBV6-L
footprint SOT23-DBV6-M
pins: 1 VOUT (out), 2 VSS (power), 3 VDD (power), 4 SDA (io), 5 SCL (in), 6 A0

## MCP4706A0T-E/CH
designator U?
MCP4706, Microchip,12bits I2C single-channel DAC, MCP4726A#T-E/CH(# means0~3),have Vref; Built_By: EMA_UL_Team; C: Copyright (C) 2015 Accelerated Designs. All rights reserved; Vendor: Microchip; Manufacturer_Part_Number: mcp4706a0t-e/ch; Value: Value; Type: Type; RefDes: RefDes; ComponentLink1Description: Product Link; ComponentLink1URL: https://www.microchip.com/wwwproducts/en/MCP4726
footprint SOT23-DBV6
footprint SOT23-DBV6-L
footprint SOT23-DBV6-M
pins: 1 VOUT (out), 2 VSS (power), 3 VDD (power), 4 SDA (io), 5 SCL (in), 6 VREF

## MCP4725
designator U?, comment MCP4705
The MCP4725 is a low-power, high accuracy, single / channel, 12-bit buffered voltage output Digital-toAnalog Convertor (DAC) with non-volatile memory / (EEPROM). Its on-board precision output amplifier / allows it to achieve rail-to-rail analog output swing.; Manufacturer_Part_Number: mcp4706a0t-e/ch; Vendor: Microchip; Built_By: EMA_UL_Team; C: Copyright (C) 2015 Accelerated Designs. All rights reserved; Value: Value; Type: Type; RefDes: RefDes; ComponentLink1Description: Product Link; ComponentLink1URL: https://www.microchip.com/wwwproducts/en/MCP4726
footprint SOT23-DBV6
footprint SOT23-DBV6-L
footprint SOT23-DBV6-M
pins: 1 VOUT (out), 2 VSS (power), 3 VDD (power), 4 SDA (io), 5 SCL (in), 6 A0

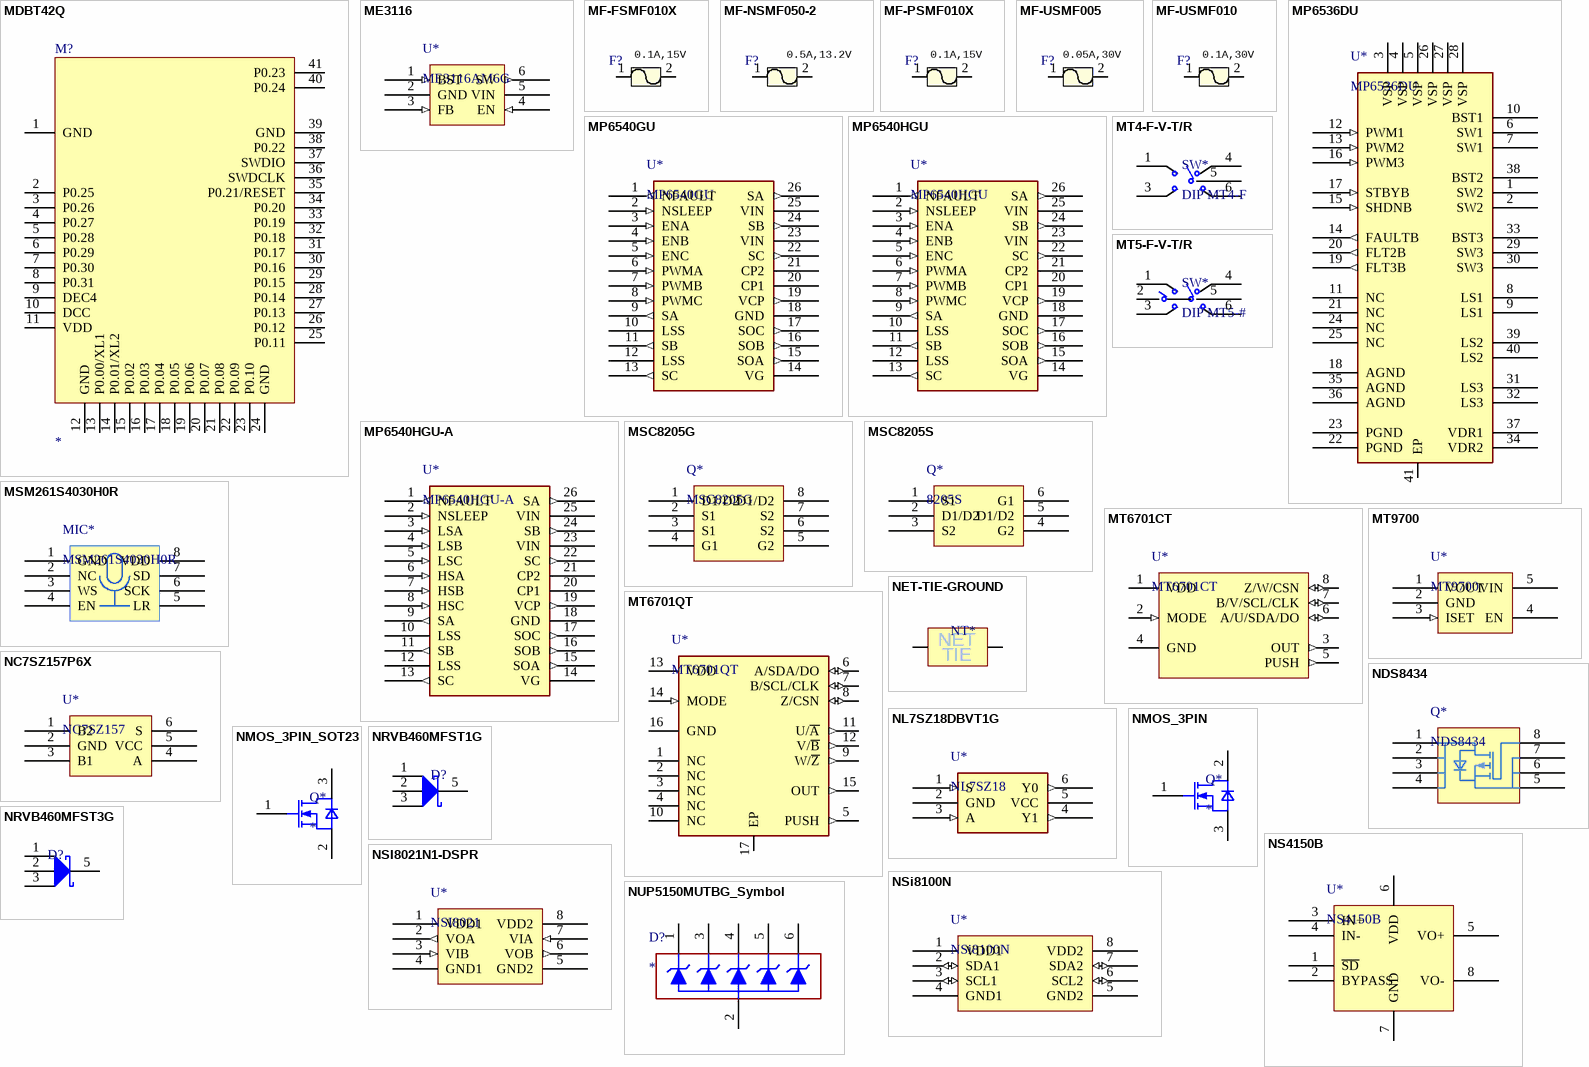
[diagram p6: symbols MDBT42Q to NUP5150MUTBG_Symbol]

## MDBT42Q
designator M?
MDBT42Q
footprint MDBT42Q_10X16
pins: 1 GND, 2 P0.25, 3 P0.26, 4 P0.27, 5 P0.28, 6 P0.29, 7 P0.30, 8 P0.31, 9 DEC4, 10 DCC, 11 VDD, 12 GND, 13 P0.00/XL1, 14 P0.01/XL2, 15 P0.02, 16 P0.03, 17 P0.04, 18 P0.05, 19 P0.06, 20 P0.07, 21 P0.08, 22 P0.09, 23 P0.10, 24 GND, 25 P0.11, 26 P0.12, 27 P0.13, 28 P0.14, 29 P0.15, 30 P0.16, 31 P0.17, 32 P0.18, 33 P0.19, 34 P0.20, 35 P0.21/RESET, 36 SWDCLK, 37 SWDIO, 38 P0.22, 39 GND, 40 P0.24, 41 P0.23

## ME3116
designator U*, comment ME3116AM6G
ME3116AM6G, SOT23-6,最高输入 40V 带载可达 1A 的 DC/DC 降压型稳压器ME3116
footprint SOT23-6L
footprint SOT-23-6
pins: 1 BST (in), 2 GND (power), 3 FB (in), 4 EN (in), 5 VIN (power), 6 SW (out)

## MF-FSMF010X
designator F?, comment value 0.1A,15V  (hidden comment: 0.1A, 15V, Fuse)
MF-FSMF010X, Bourns Reserrable Fuses with holdable current 0.1A and the max voltage is 15V, package 0603; Manufacturer_Part_Number: 0ZCG0200FF2C; Vendor: Belfuse; Built_By: EMA_UL_Team; Type: DEV; C: Copyright (C) 2016 Accelerated Designs. All rights reserved; RefDes: RefDes
footprint FUSE_0603 (Bourns MF-FSMF Series 0603(1608))
pins: 1, 2

## MF-NSMF050-2
designator F?, comment value 0.5A,13.2V  (hidden comment: 0.5A, 13.2V, Fuse)
MF-NSMF050-2, Bourns Reserrable Fuses with holdable current 0.5A and the max voltage is 13.2V, package 1206; Manufacturer_Part_Number: 0ZCG0200FF2C; Vendor: Belfuse; Built_By: EMA_UL_Team; Type: DEV; C: Copyright (C) 2016 Accelerated Designs. All rights reserved; RefDes: RefDes
footprint FUSE_1206 (Bel Fuse OZCG Series 1812(4532))
pins: 1, 2

## MF-PSMF010X
designator F?, comment value 0.1A,15V  (hidden comment: 0.1A, 15V, Fuse)
MF-PSMF010X, Bourns Reserrable Fuses with holdable current 0.1A and the max voltage is 15V, package 0805; Manufacturer_Part_Number: 0ZCG0200FF2C; Vendor: Belfuse; Built_By: EMA_UL_Team; Type: DEV; C: Copyright (C) 2016 Accelerated Designs. All rights reserved; RefDes: RefDes
footprint FUSE_0805 (Bourns MF-PSMF Series 0805(2012))
pins: 1, 2

## MF-USMF005
designator F?, comment value 0.05A,30V  (hidden comment: 0.05A, 30V, Fuse)
MF-USMF005, Bourns Reserrable Fuses with holdable current 0.05A and the max voltage is 30V, package 1210; Manufacturer_Part_Number: 0ZCG0200FF2C; Vendor: Belfuse; Built_By: EMA_UL_Team; Type: DEV; C: Copyright (C) 2016 Accelerated Designs. All rights reserved; RefDes: RefDes
footprint FUSE_1210 (Bourns MF-USMF Series 1210(3228))
pins: 1, 2

## MF-USMF010
designator F?, comment value 0.1A,30V  (hidden comment: 0.1A, 30V, Fuse)
MF-USMF010, Bourns Reserrable Fuses with holdable current 0.1A and the max voltage is 30V, package 1210; Manufacturer_Part_Number: 0ZCG0200FF2C; Vendor: Belfuse; Built_By: EMA_UL_Team; Type: DEV; C: Copyright (C) 2016 Accelerated Designs. All rights reserved; RefDes: RefDes
footprint FUSE_1210 (Bourns MF-USMF Series 1210(3228))
pins: 1, 2

## MP6536DU
designator U*
MPS, MP6536DU-LF-P/Z, 26V, 5.5A, 3-Channel Half-Bridge Driver, QFN40 5mmx5mm package
footprint QFN40-5x5_MP6536 (MPS, 40 lead QFN 5mmx5mm package, suit for MP6536)
pins: 1 SW2, 2 SW2, 3 VSP (power), 4 VSP (power), 5 VSP (power), 6 SW1, 7 SW1, 8 LS1, 9 LS1, 10 BST1, 11 NC, 12 PWM1 (in), 13 PWM2 (in), 14 FAULTB (out), 15 SHDNB (in), 16 PWM3 (in), 17 STBYB (in), 18 AGND (power), 19 FLT3B (out), 20 FLT2B (out), 21 NC, 22 PGND (power), 23 PGND (power), 24 NC, 25 NC, 26 VSP (power), 27 VSP (power), 28 VSP (power), 29 SW3, 30 SW3, 31 LS3, 32 LS3, 33 BST3, 34 VDR2, 35 AGND (power), 36 AGND (power), 37 VDR1, 38 BST2, 39 LS2, 40 LS2, 41 EP

## MP6540GU
designator U*
MPS, MP6540GU-P/Z, 35V, 3A, Three-Phase Power Stage, QFN-26(5mm x 5mm) Package
footprint QFN26-5x5_MP6540 (MPS, (5mmx5mm) package, suit for MP6540G and MPS, (5mmx5mm) package, suit for MP6540 and MP6540A)
pins: 1 NFAULT (out), 2 NSLEEP (in), 3 ENA (in), 4 ENB (in), 5 ENC (in), 6 PWMA (in), 7 PWMB (in), 8 PWMC (in), 9 SA (out), 10 LSS, 11 SB (out), 12 LSS, 13 SC (out), 14 VG, 15 SOA (out), 16 SOB (out), 17 SOC (out), 18 GND, 19 VCP (out), 20 CP1, 21 CP2, 22 SC (out), 23 VIN (power), 24 SB (out), 25 VIN (power), 26 SA (out)

## MP6540HGU
designator U*
MPS, MP6540HGU-P/Z, 50V, 5A, Three-Phase Power Stage with PWM and Enable Inputs, QFN26(5mm x 5mm) package
footprint QFN26-5x5_MP6540H (MPS, (5mmx5mm) package, suit for MP6540H and MP6540H)
pins: 1 NFAULT (out), 2 NSLEEP (in), 3 ENA (in), 4 ENB (in), 5 ENC (in), 6 PWMA (in), 7 PWMB (in), 8 PWMC (in), 9 SA (out), 10 LSS, 11 SB (out), 12 LSS, 13 SC (out), 14 VG (power), 15 SOA (out), 16 SOB (out), 17 SOC (out), 18 GND, 19 VCP (out), 20 CP1, 21 CP2, 22 SC (out), 23 VIN (power), 24 SB (out), 25 VIN (power), 26 SA (out)

## MP6540HGU-A
designator U*
MPS, MP6540HGU-A-P/Z, 50V, 5A, Three-Phase Power Stage with PWM and Enable Inputs, QFN26(5mm x 5mm) package
footprint QFN26-5x5_MP6540H (MPS, (5mmx5mm) package, suit for MP6540H and MP6540H)
pins: 1 NFAULT (out), 2 NSLEEP (in), 3 LSA (in), 4 LSB (in), 5 LSC (in), 6 HSA (in), 7 HSB (in), 8 HSC (in), 9 SA (out), 10 LSS, 11 SB (out), 12 LSS, 13 SC (out), 14 VG (power), 15 SOA (out), 16 SOB (out), 17 SOC (out), 18 GND, 19 VCP (out), 20 CP1, 21 CP2, 22 SC (out), 23 VIN (power), 24 SB (out), 25 VIN (power), 26 SA (out)

## MSC8205G
designator Q*
MORESEMI,VDS<20V,ID=6A
footprint TSSOP-8 (Shrink Small Outline; 8 Leads; Body Width 4.4 mm; Pitch 0.65 mm)
pins: 1 D1/D2, 2 S1, 3 S1, 4 G1, 5 G2, 6 S2, 7 S2, 8 D1/D2

## MSC8205S
designator Q*, comment 8205S
MORESEMI,VDS<20V,ID=6A
footprint SOT23-6AN (SOT23, 6-Leads, Body 2.9x1.6mm, Pitch 0.95mm, Lead Span 2.5mm, IPC Medium Density)
footprint SOT23-6L
footprint SOT23-6AL
pins: 1 S1, 2 D1/D2, 3 S2, 4 G2, 5 D1/D2, 6 G1

## MSM261S4030H0R
designator MIC*
MEMSensing MEMS Mic, I2S digital output MEMS microphone with Multi-modes. LGA-8, 4.0x3.0x1.25
footprint LGA8-4.0x3.0x1.25 (MEMSENING MEMS microphone, 4.0x3.0x1.25)
pins: 1 GND, 2 NC, 3 WS, 4 EN, 5 LR, 6 SCK, 7 SD, 8 VDD

## MT4-F-V-T/R
designator SW*, comment DIP MT4-F
DIPTRONICS MT4-F series multifuntion switch. 4 postitions; ComponentLink1Description: Website; ComponentLink1URL: https://tech.alpsalpine.com/prod/c/html/multicontrol/switch/skrh/skrhaae010.html
footprint DIP_MT4/5 (DIPTRONICS MULTI FUNCTION Switch MT4(5) Series)
pins: 1 A, 3 C, 4 B, 5 COM, 6 D

## MT5-F-V-T/R
designator SW*, comment DIP MT5-#
DIPTRONICS MT5-# series multifuntion switch. 5 postitions; ComponentLink1Description: Website; ComponentLink1URL: https://tech.alpsalpine.com/prod/c/html/multicontrol/switch/skrh/skrhaae010.html
footprint DIP_MT4/5 (DIPTRONICS MULTI FUNCTION Switch MT4(5) Series)
pins: 1 A, 2 CENTER, 3 C, 4 B, 5 COM, 6 D

## MT6701CT
designator U*
MT6701CT, 14-bits Hall Based Angle Position Encoder Sensor. SOIC-8.
footprint SOIC_D8 (TI SOIC-D8)
pins: 1 VDD (power) "3.3~5.0V Supply", 2 MODE (in) "ABZ or I2C/SSI Selection", 3 OUT (out) "Analog or PWM Output", 4 GND (power) "Ground", 5 PUSH (out) "Push Button Function Output", 6 A/U/SDA/DO (io) "Push Button Function Output", 7 B/V/SCL/CLK (io) "Push Button Function Output", 8 Z/W/CSN (io) "Push Button Function Output"

## MT6701QT
designator U*
MT6701QT, 14-bits Hall Based Angle Position Encoder Sensor. QFN-16.
footprint ONSEMI_QFN-16_3x3
pins: 1 NC, 2 NC, 3 NC, 4 NC, 5 PUSH (out) "Push Button Function Output", 6 A/SDA/DO (io) "Incremental Signal A, or I2C data‘SDA’,", 7 B/SCL/CLK (io) "Incremental Signal B, or I2C clock‘SCL’,", 8 Z/CSN (io) "Incremental Signal Z, or SSI ‘CSN", 9 W/~{Z} (out) "Incremental Signal W or –Z", 10 NC, 11 U/~{A} (out) "Incremental Signal U or –A", 12 V/~{B} (out) "Incremental Signal V or –B", 13 VDD (power) "3.3~5.0V Supply", 14 MODE (in) "ABZ or I2C/SSI Selection", 15 OUT (out) "Analog or PWM Output", 16 GND (power) "Ground", 17 EP "Analog or PWM Output"

## MT9700
designator U*
Aerosemi, MT9700, 80mΩ Adjustment Fast Response Current-Limited, Power-Distribution Switch.(Load-Switch). Current linit is 1A. SOT23-5; ComponentLink1Description: Datasheet; ComponentLink1URL: https://www.richtek.com/assets/product_file/RT9193/DS9193-17.pdf; ComponentLink2Description: Website; ComponentLink2URL: https://www.richtek.com/Products/Linear%20Regulator/Single%20Output%20Linear%20Regulator/RT9193?sc_lang=en
footprint SOT23-5
pins: 1 VOUT (power), 2 GND (power), 3 ISET (in), 4 EN, 5 VIN (power)

## NC7SZ157P6X
designator U*, comment NC7SZ157
Onsemi, TinyLogic UHS 2-Input Non-Inverting Multiplexer. PAckage:SC-88-6 / SC-70-6 / SOT-363-6(Those three packages are equel)
footprint SC70-6 (SC70-5, TI:DCK0006A)
footprint SOT-363-6 (SC-88-6 / SC-70-6 / SOT-363-6)
footprint SC-88-6 (ONSEMI SC-88-6 / SC-70-6 / SOT-363-6)
pins: 1 B2 (power), 2 GND (power), 3 B1 (power), 4 A (power), 5 VCC (power), 6 S (power)

## NDS8434
designator Q*
NDS8434 / Single P-Channel Enhancement Mode Field Effect Transistor from  onsemi.
footprint SOIC_8_MOS (ONSEMI MOSFET SOIC-8)
pins: 1 D, 2 D, 3 D, 4 D, 5 S, 6 S, 7 S, 8 G

## NET-TIE-GROUND
designator NT*, comment Net Tie  (value not drawn)  (net tie, no BOM)
footprint NET-TIE-30MIL
footprint NET-TIE-50MIL
footprint NET-TIE-100MIL
footprint NET-TIE-75MIL
footprint NET-TIE-30MIL-Block
footprint NET-TIE-35MIL-ShortBlock
footprint NET-TIE-80MIL-BLOCK
footprint NET-TIE-100MIL-BLOCK
footprint NET-TIE-50MIL-Block
pins: 1 AG, 2 G
text: NET; TIE

## NL7SZ18DBVT1G
designator U*, comment NL7SZ18
Onsemi,  1-to-2 Demultiplexer with 3-State Deselected Output, DBV(SC-74)package. Can be replace by 74LVC1G18 or SN74LVC1G18.
footprint SC-74-6 (SC74-6, nexperia:SOT457)
pins: 1 S (in), 2 GND (power), 3 A (in), 4 Y1 (out), 5 VCC (power), 6 Y0 (out)

## NMOS_3PIN
designator Q*
NMOS template with a 3 pin package: like DPAK(TO-252) or D2PAK(TO-263)
footprint D2PAK
footprint D2PAK-L
footprint D2PAK-M
footprint DPAK
footprint DPAK-L
footprint DPAK-M
pins: 1 G, 2 D, 3 S

## NMOS_3PIN_SOT23
designator Q*
NMOS template with a 3 pin package: SOT-23
footprint SOT23-MOS (For si2301/2302 or AO3400/3401.)
pins: 1 G, 2 S, 3 D

## NRVB460MFST1G
designator D?
SWITCHMODE(TM) Power Rectifier, 5-Pin DFN, Pb-Free, Tape and Reel; Manufacturer: On Semiconductor; PartNumber: NRVB460MFST1G; Configuration: Single; IFSM Max (A): 40; DatasheetVersion: Rev. 0; PackageVersion: Rev. G, 04/2012; PackageReference: DFN-5-488AA_G; PackageDescription: 5-Pin Small Outline No-Lead, Body 4.9 x 5.8 mm, Pitch 1.27 mm; Supplier 1: Newark; Supplier Part Number 1: 97W6355; Supplier 2: Mouser; Supplier Part Number 2: 863-NRVB460MFST1G; Packing: Tape and Reel; RoHS: TRUE; Mounting Technology: Surface Mount; ComponentLink1Description: Manufacturer URL; ComponentLink1URL: http://www.onsemi.com/; ComponentLink2Description: Datasheet; ComponentLink2URL: http://www.onsemi.cn/pub_link/Collateral/MBR460MFS-D.PDF; ComponentLink3Description: Package Specification; ComponentLink3URL: http://www.onsemi.com/pub_link/Collateral/MBR5H100MFS-D.PDF
footprint ONSC-DFN-5-488AA_G_V (DFN, 5-Leads, Body 4.9x5.8mm)
pins: 1 A, 2 A, 3 A, 4 NC, 5 K

## NRVB460MFST3G
designator D?
SWITCHMODE(TM) Power Rectifier, 5-Pin DFN, Pb-Free, Tape and Reel; Manufacturer: On Semiconductor; PartNumber: NRVB460MFST3G; Configuration: Single; IFSM Max (A): 40; DatasheetVersion: Rev. 0; PackageVersion: Rev. G, 04/2012; PackageReference: DFN-5-488AA_G; PackageDescription: 5-Pin Small Outline No-Lead, Body 4.9 x 5.8 mm, Pitch 1.27 mm; Supplier 1: Newark; Supplier Part Number 1: 97W6356; Supplier 2: Mouser; Supplier Part Number 2: 863-NRVB460MFST3G; Packing: Tape and Reel; RoHS: TRUE; Mounting Technology: Surface Mount; ComponentLink1Description: Manufacturer URL; ComponentLink1URL: http://www.onsemi.com/; ComponentLink2Description: Datasheet; ComponentLink2URL: http://www.onsemi.cn/pub_link/Collateral/MBR460MFS-D.PDF; ComponentLink3Description: Package Specification; ComponentLink3URL: http://www.onsemi.com/pub_link/Collateral/MBR5H100MFS-D.PDF
footprint ONSC-DFN-5-488AA_G_V (DFN, 5-Leads, Body 4.9x5.8mm)
pins: 1 A, 2 A, 3 A, 4 NC, 5 K

## NS4150B
designator U*
NS4150B,MSOP-8,超低 EMI、无需滤波器、3W 单声道 D 类音频功放
footprint msop-8 (MSOP-8, 5.1mmx3.1mmx1.1mm)
pins: 1 ~{SD}, 2 BYPASS, 3 IN+, 4 IN-, 5 VO+, 6 VDD, 7 GND, 8 VO-

## NSI8021N1-DSPR
designator U*, comment NSI8021
NSI8021N1-DSPR，NOVOSENSE, High Reliability DualChannel Digital Isolators
footprint SOIC8_HV (ISO1211 or others package. SOIC-8)
pins: 1 VDD1 (power), 2 VOA (out), 3 VIB (in), 4 GND1 (power), 5 GND2 (power), 6 VOB (out), 7 VIA (in), 8 VDD2 (power)

## NSi8100N
designator U*
Novosense, High Reliability Bidirectional I2C Isolators,2MHz, 3~5.5V, SOIC8
footprint SOIC8_HV (ISO1211 or others package. SOIC-8)
pins: 1 VDD1 (power), 2 SDA1 (io), 3 SCL1 (io), 4 GND1 (power), 5 GND2 (power), 6 SCL2 (io), 7 SDA2 (io), 8 VDD2 (power)

## NUP5150MUTBG_Symbol
designator D?
5-TVS Array; Manufacturer_Name: ON Semiconductor; Manufacturer_Part_Number: NUP5150MUTBG; Datasheet Link: https://componentsearchengine.com/Datasheets/1/NUP5150MUTBG.pdf; Height: 0.55mm; Mouser Part Number: 863-NUP5150MUTBG; Mouser Price/Stock: https://www.mouser.com/Search/Refine.aspx?Keyword=863-NUP5150MUTBG
footprint SON40P100X120X55-6N
pins: 1 CATHODE_1, 2 ANODE, 3 CATHODE_2, 4 CATHODE_3, 5 CATHODE_4, 6 CATHODE_5

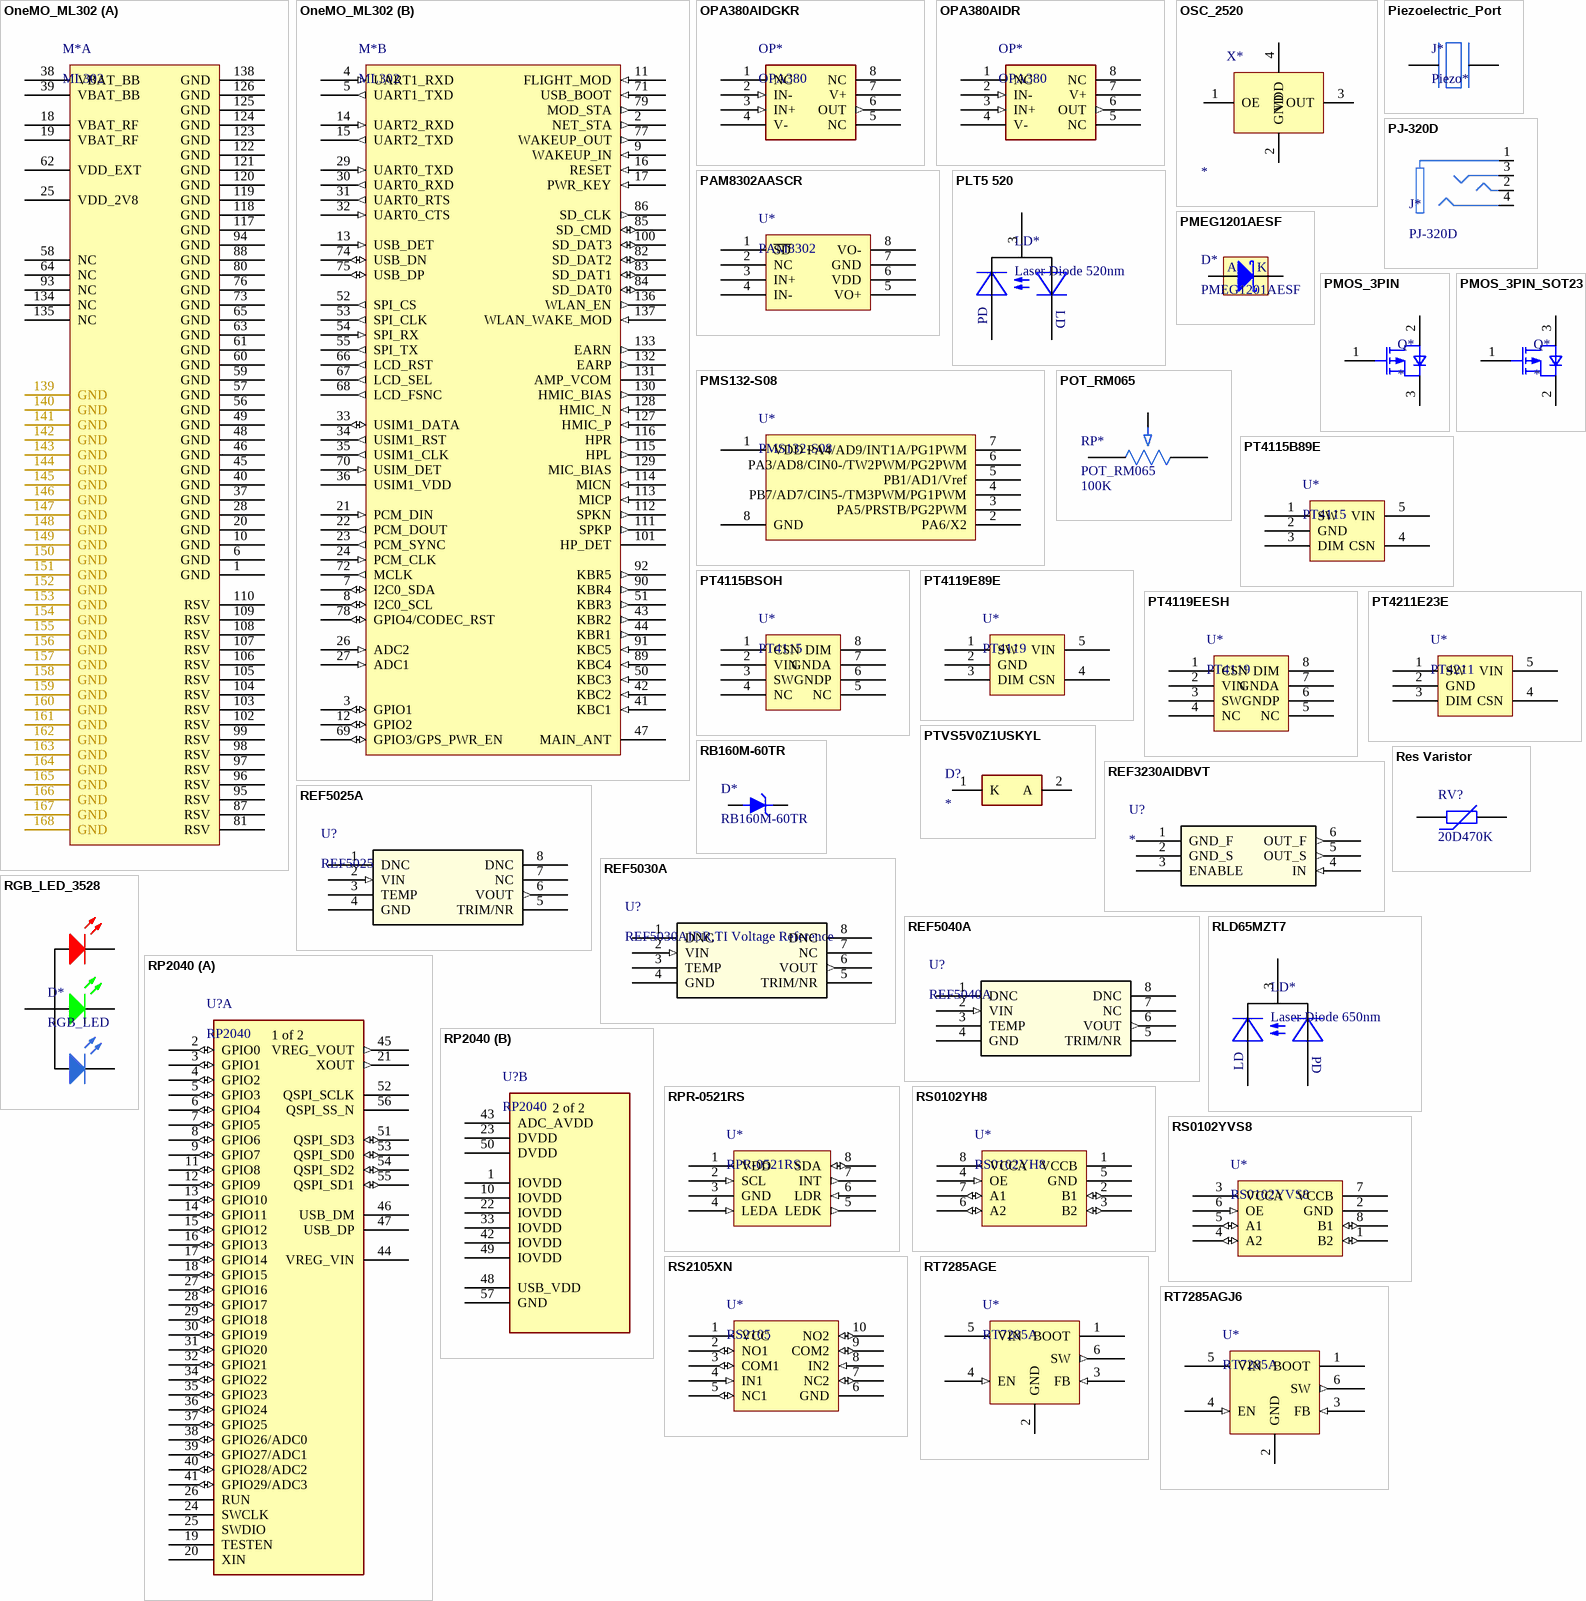
[diagram p7: symbols OneMO_ML302 to RT7285AGJ6]